# EAGLE library part S12B-PH-* (library jst-pa)
Wire-to-Board 2.0mm pitch side mount connector Source: http://www.jst-mfg.com/product/pdf/jpn/PH.pdf http://www.jst-mfg.com/product/detail.php?series=199
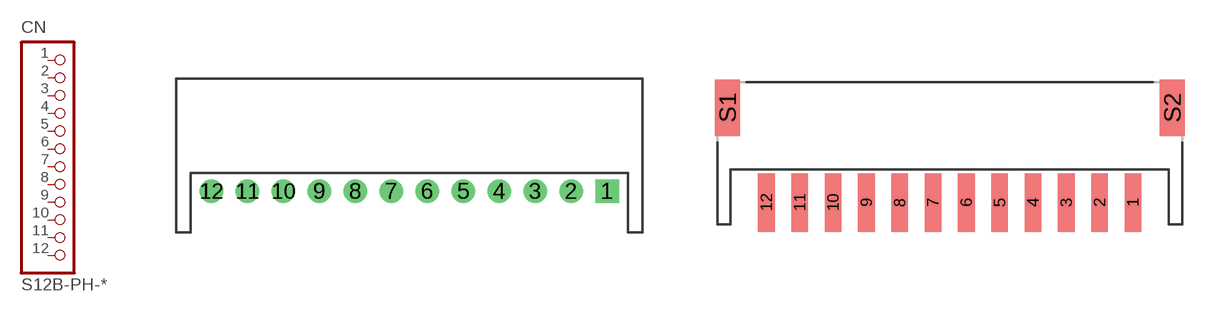
[diagram p17: symbol with the pads of S12B-PH-K-S; footprints S12B-PH-K-S, S12B-PH-SM4-TB]

Designator prefix CN

## S12B-PH-K-S  [S12B-PH-K-S]
1  1  pas
2  2  pas
3  3  pas
4  4  pas
5  5  pas
6  6  pas
7  7  pas
8  8  pas
9  9  pas
10  10  pas
11  11  pas
12  12  pas

## S12B-PH-SM4-TB  [S12B-PH-SM4-TB]
Pads as for S12B-PH-K-S

## Footprint S12B-PH-K-S (pad centres in mm)
drill 0.8 square: 1 11,0
drill 0.8: 2 9,0; 3 7,0; 4 5,0; 5 3,0; 6 1,0; 7 -1,0; 8 -3,0; 9 -5,0; 10 -7,0; 11 -9,0; 12 -11,0

## Footprint S12B-PH-SM4-TB (pad centres in mm)
smd 1 x 3.5: 1 11,-1; 2 9,-1; 3 7,-1; 4 5,-1; 5 3,-1; 6 1,-1; 7 -1,-1; 8 -3,-1; 9 -5,-1; 10 -7,-1; 11 -9,-1; 12 -11,-1
smd 1.5 x 3.4: S1 -13.35,4.7; S2 13.35,4.7